# Altium footprint library 通讯接口.PcbLib: 40 footprints (part 1 of 3)
Each footprint in its own frame and in the unit in brackets; x right, y up, seen from the top. Pads: shape width x height; smd on the part's side, far side on the other; paste and mask are expansions set on the pad; w line width, h text height; cw(c..) or ccw(c..) is an arc to the next point about the centre after c.
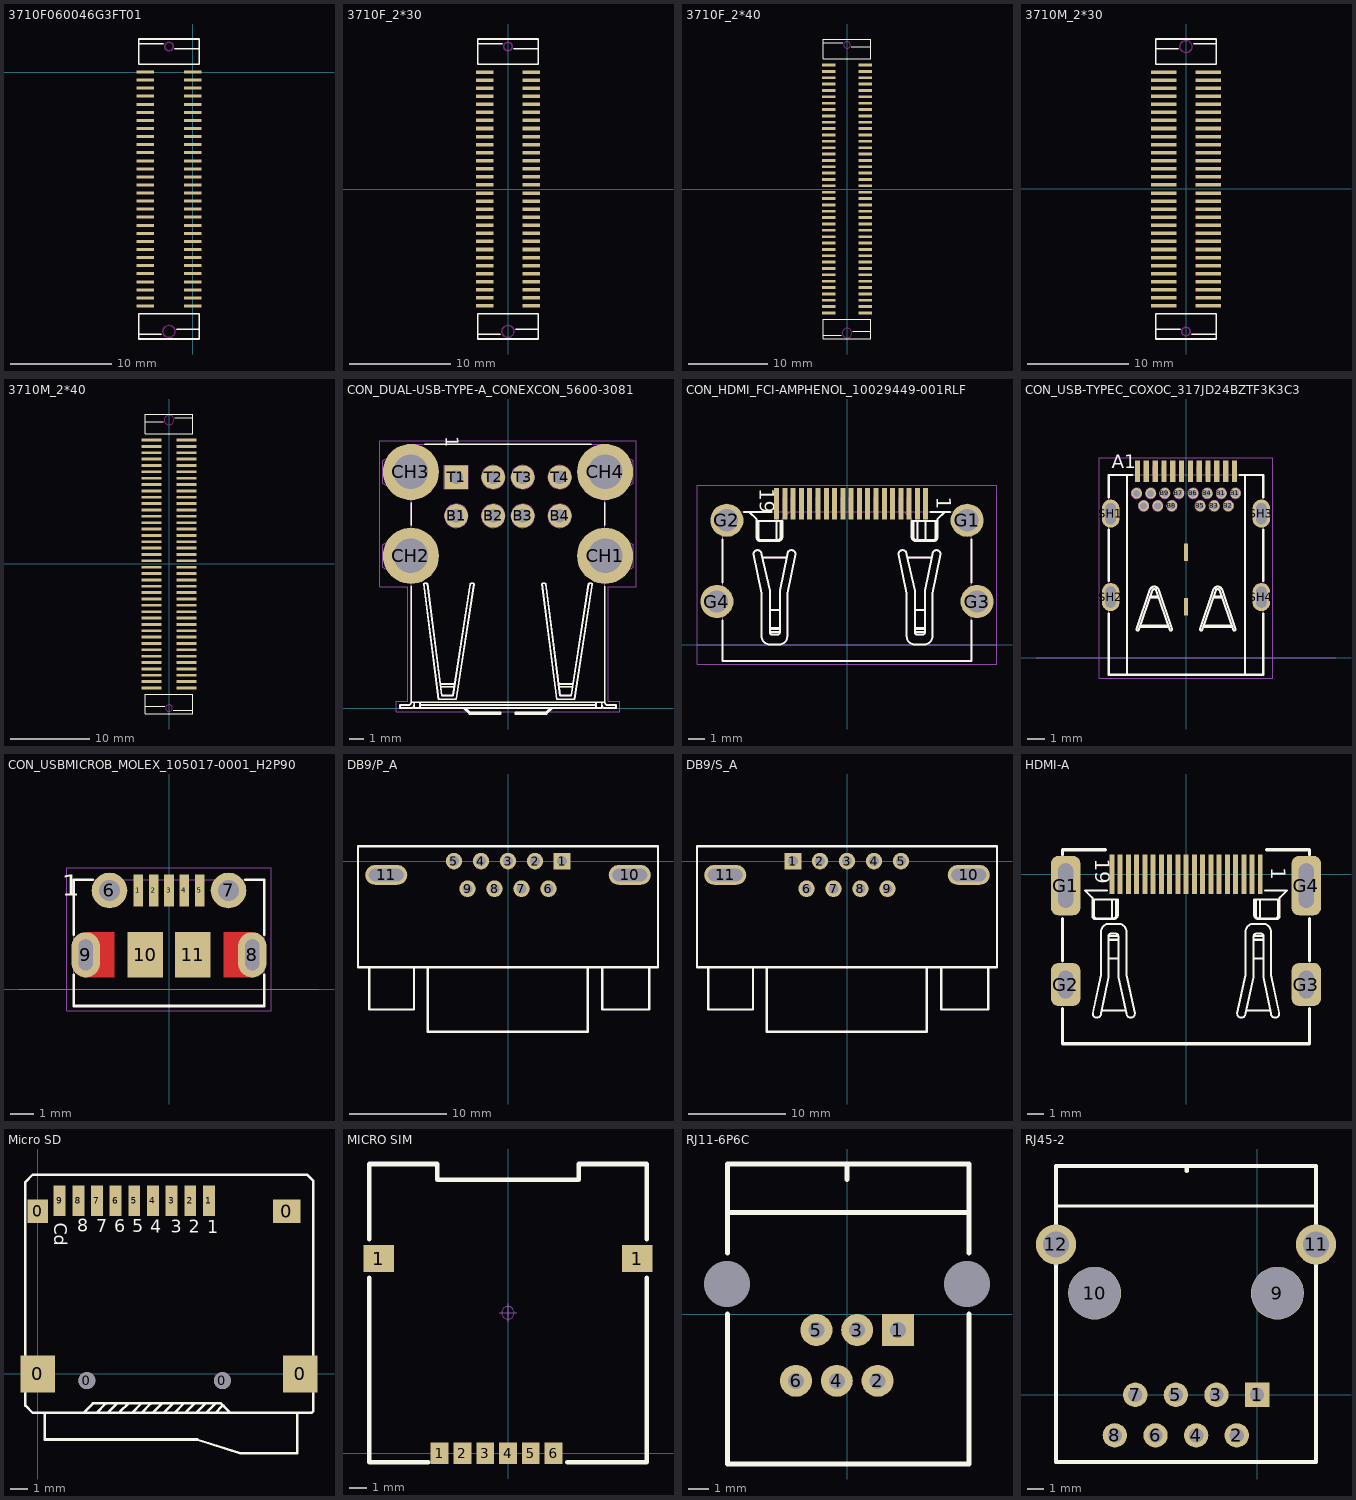
[diagram p0: the footprints below, top view; thin cyan lines are the x and y axes]

## 3710F060046G3FT01 [mm] "PIN:0.8mm;SOP;FEMALE"
height 4.6
pads (60):
  rect 1.7x0.3 smd: 1(-4.7,0) 2(-4.7,-0.8) 3(-4.7,-1.6) 4(-4.7,-2.4) 5(-4.7,-3.2) 6(-4.7,-4) 7(-4.7,-4.8) 8(-4.7,-5.6) 9(-4.7,-6.4) 10(-4.7,-7.2) 11(-4.7,-8) 12(-4.7,-8.8) 13(-4.7,-9.6) 14(-4.7,-10.4) 15(-4.7,-11.2) 16(-4.7,-12) 17(-4.7,-12.8) 18(-4.7,-13.6) 19(-4.7,-14.4) 20(-4.7,-15.2) 21(-4.7,-16) 22(-4.7,-16.8) 23(-4.7,-17.6) 24(-4.7,-18.4) 25(-4.7,-19.2) 26(-4.7,-20) 27(-4.7,-20.8) 28(-4.7,-21.6) 29(-4.7,-22.4) 30(-4.7,-23.2) 31(0,-23.2) 32(0,-22.4) 33(0,-21.6) 34(0,-20.8) 35(0,-20) 36(0,-19.2) 37(0,-18.4) 38(0,-17.6) 39(0,-16.8) 40(0,-16) 41(0,-15.2) 42(0,-14.4) 43(0,-13.6) 44(0,-12.8) 45(0,-12) 46(0,-11.2) 47(0,-10.4) 48(0,-9.6) 49(0,-8.8) 50(0,-8) 51(0,-7.2) 52(0,-6.4) 53(0,-5.6) 54(0,-4.8) 55(0,-4) 56(0,-3.2) 57(0,-2.4) 58(0,-1.6) 59(0,-0.8) 60(0,0)
Top Overlay:
  lines w0.152: -5.35,-26 -3.1,-26 ; -5.35,2.8 -2.9,2.8 ; -1.8,2.3 0.65,2.3 ; -1.6,-25.5 0.65,-25.5 ; 0.625,0.775 -5.35,0.775 -5.35,3.275 0.65,3.275 0.65,0.775 ; -5.35,-26.475 -5.35,-23.975 0.65,-23.975 0.65,-26.475 -5.35,-26.475
Keep-Out Layer:
  circle w0.127: c-2.35,2.525 r0.42
  circle w0.127: c-2.35,-25.725 r0.6

## 3710F_2*30 [mm] "PIN:0.8mm;SOP;FEMALE"
height 4.6
pads (60):
  rect 1.7x0.35 smd: 1(-2.3,11.6) 2(-2.3,10.8) 3(-2.3,10) 4(-2.3,9.2) 5(-2.3,8.4) 6(-2.3,7.6) 7(-2.3,6.8) 8(-2.3,6) 9(-2.3,5.2) 10(-2.3,4.4) 11(-2.3,3.6) 12(-2.3,2.8) 13(-2.3,2) 14(-2.3,1.2) 15(-2.3,0.4) 16(-2.3,-0.4) 17(-2.3,-1.2) 18(-2.3,-2) 19(-2.3,-2.8) 20(-2.3,-3.6) 21(-2.3,-4.4) 22(-2.3,-5.2) 23(-2.3,-6) 24(-2.3,-6.8) 25(-2.3,-7.6) 26(-2.3,-8.4) 27(-2.3,-9.2) 28(-2.3,-10) 29(-2.3,-10.8) 30(-2.3,-11.6) 31(2.3,-11.6) 32(2.3,-10.8) 33(2.3,-10) 34(2.3,-9.2) 35(2.3,-8.4) 36(2.3,-7.6) 37(2.3,-6.8) 38(2.3,-6) 39(2.3,-5.2) 40(2.3,-4.4) 41(2.3,-3.6) 42(2.3,-2.8) 43(2.3,-2) 44(2.3,-1.2) 45(2.3,-0.4) 46(2.3,0.4) 47(2.3,1.2) 48(2.3,2) 49(2.3,2.8) 50(2.3,3.6) 51(2.3,4.4) 52(2.3,5.2) 53(2.3,6) 54(2.3,6.8) 55(2.3,7.6) 56(2.3,8.4) 57(2.3,9.2) 58(2.3,10) 59(2.3,10.8) 60(2.3,11.6)
Top Overlay:
  lines w0.152: -3,-14.4 -0.75,-14.4 ; -3,14.4 -0.55,14.4 ; 0.55,13.9 3,13.9 ; 0.75,-13.9 3,-13.9 ; 2.975,12.375 -3,12.375 -3,14.875 3,14.875 3,12.375 ; -3,-14.875 -3,-12.375 3,-12.375 3,-14.875 -3,-14.875
Keep-Out Layer:
  circle w0.127: c0,14.125 r0.42
  circle w0.127: c0,-14.125 r0.6

## 3710F_2*40 [mm] "PIN:0.8mm;SOP;FEMALE"
height 4.6
pads (80):
  rect 1.7x0.35 smd: 1(-2.3,15.6) 2(-2.3,14.8) 3(-2.3,14) 4(-2.3,13.2) 5(-2.3,12.4) 6(-2.3,11.6) 7(-2.3,10.8) 8(-2.3,10) 9(-2.3,9.2) 10(-2.3,8.4) 11(-2.3,7.6) 12(-2.3,6.8) 13(-2.3,6) 14(-2.3,5.2) 15(-2.3,4.4) 16(-2.3,3.6) 17(-2.3,2.8) 18(-2.3,2) 19(-2.3,1.2) 20(-2.3,0.4) 21(-2.3,-0.4) 22(-2.3,-1.2) 23(-2.3,-2) 24(-2.3,-2.8) 25(-2.3,-3.6) 26(-2.3,-4.4) 27(-2.3,-5.2) 28(-2.3,-6) 29(-2.3,-6.8) 30(-2.3,-7.6) 31(-2.3,-8.4) 32(-2.3,-9.2) 33(-2.3,-10) 34(-2.3,-10.8) 35(-2.3,-11.6) 36(-2.3,-12.4) 37(-2.3,-13.2) 38(-2.3,-14) 39(-2.3,-14.8) 40(-2.3,-15.6) 41(2.3,-15.6) 42(2.3,-14.8) 43(2.3,-14) 44(2.3,-13.2) 45(2.3,-12.4) 46(2.3,-11.6) 47(2.3,-10.8) 48(2.3,-10) 49(2.3,-9.2) 50(2.3,-8.4) 51(2.3,-7.6) 52(2.3,-6.8) 53(2.3,-6) 54(2.3,-5.2) 55(2.3,-4.4) 56(2.3,-3.6) 57(2.3,-2.8) 58(2.3,-2) 59(2.3,-1.2) 60(2.3,-0.4) 61(2.3,0.4) 62(2.3,1.2) 63(2.3,2) 64(2.3,2.8) 65(2.3,3.6) 66(2.3,4.4) 67(2.3,5.2) 68(2.3,6) 69(2.3,6.8) 70(2.3,7.6) 71(2.3,8.4) 72(2.3,9.2) 73(2.3,10) 74(2.3,10.8) 75(2.3,11.6) 76(2.3,12.4) 77(2.3,13.2) 78(2.3,14) 79(2.3,14.8) 80(2.3,15.6)
Top Overlay:
  lines w0.152: -3,-18.4 -0.75,-18.4 ; -3,18.4 -0.55,18.4 ; 0.55,17.9 3,17.9 ; 0.75,-17.9 3,-17.9 ; 2.975,16.375 -3,16.375 -3,18.875 3,18.875 3,16.375 ; -3,-18.875 3,-18.875 3,-16.375 -3,-16.375 -3,-18.875
Keep-Out Layer:
  circle w0.127: c0,-18.125 r0.6
  circle w0.127: c0,18.125 r0.42

## 3710M_2*30 [mm] "PIN:0.8mm;SOP;MALE"
height 4.6
pads (60):
  rect 2.5x0.35 smd: 1(2.2,11.6) 2(2.2,10.8) 3(2.2,10) 4(2.2,9.2) 5(2.2,8.4) 6(2.2,7.6) 7(2.2,6.8) 8(2.2,6) 9(2.2,5.2) 10(2.2,4.4) 11(2.2,3.6) 12(2.2,2.8) 13(2.2,2) 14(2.2,1.2) 15(2.2,0.4) 16(2.2,-0.4) 17(2.2,-1.2) 18(2.2,-2) 19(2.2,-2.8) 20(2.2,-3.6) 21(2.2,-4.4) 22(2.2,-5.2) 23(2.2,-6) 24(2.2,-6.8) 25(2.2,-7.6) 26(2.2,-8.4) 27(2.2,-9.2) 28(2.2,-10) 29(2.2,-10.8) 30(2.2,-11.6) 31(-2.2,-11.6) 32(-2.2,-10.8) 33(-2.2,-10) 34(-2.2,-9.2) 35(-2.2,-8.4) 36(-2.2,-7.6) 37(-2.2,-6.8) 38(-2.2,-6) 39(-2.2,-5.2) 40(-2.2,-4.4) 41(-2.2,-3.6) 42(-2.2,-2.8) 43(-2.2,-2) 44(-2.2,-1.2) 45(-2.2,-0.4) 46(-2.2,0.4) 47(-2.2,1.2) 48(-2.2,2) 49(-2.2,2.8) 50(-2.2,3.6) 51(-2.2,4.4) 52(-2.2,5.2) 53(-2.2,6) 54(-2.2,6.8) 55(-2.2,7.6) 56(-2.2,8.4) 57(-2.2,9.2) 58(-2.2,10) 59(-2.2,10.8) 60(-2.2,11.6)
Top Overlay:
  lines w0.152: -3,-13.9 -0.55,-13.9 ; -3,-12.375 -3,-14.875 3,-14.875 3,-12.375 -2.975,-12.375 ; -3,13.9 -0.75,13.9 ; 0.55,-14.4 3,-14.4 ; 0.75,14.4 3,14.4 ; -3,12.375 3,12.375 3,14.875 -3,14.875 -3,12.375
Keep-Out Layer:
  circle w0.127: c0,14.125 r0.6
  circle w0.127: c0,-14.125 r0.42

## 3710M_2*40 [mm] "PIN:0.8mm;SOP;MALE"
height 4.6
pads (80):
  rect 2.5x0.35 smd: 1(2.2,15.6) 2(2.2,14.8) 3(2.2,14) 4(2.2,13.2) 5(2.2,12.4) 6(2.2,11.6) 7(2.2,10.8) 8(2.2,10) 9(2.2,9.2) 10(2.2,8.4) 11(2.2,7.6) 12(2.2,6.8) 13(2.2,6) 14(2.2,5.2) 15(2.2,4.4) 16(2.2,3.6) 17(2.2,2.8) 18(2.2,2) 19(2.2,1.2) 20(2.2,0.4) 21(2.2,-0.4) 22(2.2,-1.2) 23(2.2,-2) 24(2.2,-2.8) 25(2.2,-3.6) 26(2.2,-4.4) 27(2.2,-5.2) 28(2.2,-6) 29(2.2,-6.8) 30(2.2,-7.6) 31(2.2,-8.4) 32(2.2,-9.2) 33(2.2,-10) 34(2.2,-10.8) 35(2.2,-11.6) 36(2.2,-12.4) 37(2.2,-13.2) 38(2.2,-14) 39(2.2,-14.8) 40(2.2,-15.6) 41(-2.2,-15.6) 42(-2.2,-14.8) 43(-2.2,-14) 44(-2.2,-13.2) 45(-2.2,-12.4) 46(-2.2,-11.6) 47(-2.2,-10.8) 48(-2.2,-10) 49(-2.2,-9.2) 50(-2.2,-8.4) 51(-2.2,-7.6) 52(-2.2,-6.8) 53(-2.2,-6) 54(-2.2,-5.2) 55(-2.2,-4.4) 56(-2.2,-3.6) 57(-2.2,-2.8) 58(-2.2,-2) 59(-2.2,-1.2) 60(-2.2,-0.4) 61(-2.2,0.4) 62(-2.2,1.2) 63(-2.2,2) 64(-2.2,2.8) 65(-2.2,3.6) 66(-2.2,4.4) 67(-2.2,5.2) 68(-2.2,6) 69(-2.2,6.8) 70(-2.2,7.6) 71(-2.2,8.4) 72(-2.2,9.2) 73(-2.2,10) 74(-2.2,10.8) 75(-2.2,11.6) 76(-2.2,12.4) 77(-2.2,13.2) 78(-2.2,14) 79(-2.2,14.8) 80(-2.2,15.6)
Top Overlay:
  lines w0.152: -3,-17.9 -0.55,-17.9 ; -3,-16.375 -3,-18.875 3,-18.875 3,-16.375 -2.975,-16.375 ; -3,17.9 -0.75,17.9 ; 0.55,-18.4 3,-18.4 ; 0.75,18.4 3,18.4 ; -3,16.375 -3,18.875 3,18.875 3,16.375 -3,16.375
Keep-Out Layer:
  circle w0.127: c0,-18.125 r0.42
  circle w0.127: c0,18.125 r0.6

## CON_DUAL-USB-TYPE-A_CONEXCON_5600-3081 [mm]
height 15.82
pads (12):
  round 1.6 hole 0.92: B1(-3.5,13.01) B2(-1,13.01) B3(1,13.01) B4(3.5,13.01) T2(-1,15.63) T3(1,15.63) T4(3.5,15.63)
  round 3.8 hole 2.33: CH1(6.57,10.3) CH2(-6.57,10.3) CH3(-6.57,15.98) CH4(6.57,15.98)
  rect 1.6x1.6 hole 0.92: T1(-3.5,15.63)
Top Overlay:
  lines w0.12: -6.55,8.225 -6.55,0.4 ; -6.55,12.375 -6.55,13.9 ; -6.35,0.2 cw(c-6.55,0.2) -6.55,0 ; -5.95,0 -5.95,0.4 ; -5.95,0.2 5.95,0.2 ; -5.625,17.85 5.625,17.85 ; -4.575,1.624 -3.6,1.625 ; -4.552,1.45 -3.632,1.45 ; -3,0 -2.6,-0.4 -0.5,-0.4 -0.5,-0.3 -2.55,-0.3 -2.85,0 ; 2.85,0 2.55,-0.3 0.5,-0.3 0.5,-0.4 2.6,-0.4 3,0 ; 3.425,1.624 4.4,1.625 ; 3.448,1.45 4.368,1.45 ; 5.95,0 5.95,0.2 ; 5.95,0.4 5.95,0.2 ; 6.35,0.2 ccw(c6.55,0.2) 6.55,0 ; 6.35,0.4 6.35,0 -6.35,0 ; 6.55,8.225 6.55,0.4 ; 6.55,12.375 6.55,13.9 ; -6.75,0.2 ccw(c-6.75,0.4) -6.55,0.4 ; -6.75,0.2 -7.3,0.2 -7.3,0 -6.55,0 ; -6.75,0.2 -6.75,0.2 ; -6.55,0 -6.55,0 ; -6.55,0.4 6.55,0.4 ; -6.55,0.4 -6.35,0.4 -6.35,0 ; -6.35,0 -6.35,0 ; 6.55,0 6.55,0 ; 6.55,0 7.3,0 7.3,0.2 6.75,0.2 ; 6.55,0.4 ccw(c6.75,0.4) 6.75,0.2 ; 6.75,0.2 6.75,0.2 ; -5.7,8.4 cw(c-5.575,8.275) -5.45,8.4 -4.475,0.85 -3.725,0.85 -2.55,8.4 cw(c-2.425,8.275) -2.3,8.4 -3.5,0.6 -4.7,0.6 -5.7,8.4 ; 2.3,8.4 cw(c2.425,8.275) 2.55,8.4 3.525,0.85 4.275,0.85 5.45,8.4 cw(c5.575,8.275) 5.7,8.4 4.5,0.6 3.3,0.6 2.3,8.4
  text "1" at -4.525,18.4 h1.5
Mechanical 14:
  circle w0.01: c-1,15.63 r0.8
  circle w0.01: c1,15.63 r0.8
  circle w0.01: c3.5,15.63 r0.8
  circle w0.01: c-3.5,13.01 r0.8
  circle w0.01: c-1,13.01 r0.8
  circle w0.01: c1,13.01 r0.8
  circle w0.01: c3.5,13.01 r0.8
  lines w0.01: -6.55,8.4 -8.475,9.525 -8.475,11.05 -6.55,12.175 ; -6.55,14.075 -8.475,15.2 -8.475,16.725 -6.55,17.85 ; -6.35,0.2 cw(c-6.55,0.2) -6.55,0 ; -5.95,0 -5.95,0.4 ; -5.95,0.2 5.95,0.2 ; -4.575,1.624 -3.6,1.625 ; -4.552,1.45 -3.632,1.45 ; -3,0 -2.6,-0.4 -0.5,-0.4 -0.5,-0.3 -2.55,-0.3 -2.85,0 ; 2.85,0 2.55,-0.3 0.5,-0.3 0.5,-0.4 2.6,-0.4 3,0 ; 3.425,1.624 4.4,1.625 ; 3.448,1.45 4.368,1.45 ; 5.95,0 5.95,0.2 ; 5.95,0.4 5.95,0.2 ; 6.35,0.2 ccw(c6.55,0.2) 6.55,0 ; 6.35,0.4 6.35,0 -6.35,0 ; 6.55,8.4 8.475,9.525 8.475,11.05 6.55,12.175 ; 6.55,14.075 8.475,15.2 8.475,16.725 6.55,17.85 ; -6.75,0.2 ccw(c-6.75,0.4) -6.55,0.4 ; -6.75,0.2 -6.75,0.2 ; -6.75,0.2 -7.3,0.2 -7.3,0 -6.55,0 ; -6.55,0 -6.55,0 ; -6.55,0.4 -6.35,0.4 -6.35,0 ; -6.55,0.4 6.55,0.4 ; -6.55,0.4 -6.55,17.85 ; -6.55,17.85 6.55,17.85 ; -6.35,0 -6.35,0 ; 6.55,0 7.3,0 7.3,0.2 6.75,0.2 ; 6.55,0 6.55,0 ; 6.55,0.4 ccw(c6.75,0.4) 6.75,0.2 ; 6.55,0.4 6.55,17.85 ; 6.75,0.2 6.75,0.2 ; -5.7,8.4 cw(c-5.575,8.275) -5.45,8.4 -4.475,0.85 -3.725,0.85 -2.55,8.4 cw(c-2.425,8.275) -2.3,8.4 -3.5,0.6 -4.7,0.6 -5.7,8.4 ; -4.3,14.825 -2.7,14.825 -2.7,16.425 -4.3,16.425 -4.3,14.825 ; 2.3,8.4 cw(c2.425,8.275) 2.55,8.4 3.525,0.85 4.275,0.85 5.45,8.4 cw(c5.575,8.275) 5.7,8.4 4.5,0.6 3.3,0.6 2.3,8.4
  text "8" at 3.175,12.5 h1.5
  text "7" at 0.675,12.525 h1.5
  text "6" at -1.325,12.525 h1.5
  text "5" at -3.85,12.525 h1.5
  text "4" at 3.1,15.15 h1.5
  text "3" at 0.675,15.125 h1.5
  text "2" at -1.35,15.175 h1.5
  text "1" at -3.7,15.125 h1.5
Mechanical 16:
  lines w0.01: -8.675,8.2 -8.675,12.4 -8.675,18.1 8.675,18.1 8.675,8.2 6.8,8.2 6.8,0.45 7.55,0.45 7.55,-0.25 -5.875,-0.25 -7.55,-0.25 -7.55,0.45 -6.8,0.45 -6.775,0.475 -6.775,8.2 -8.675,8.2
3D body: height 15.82, standoff 0, extent -6.549,0.401 6.549,17.849
3D body: height 15.82, standoff 0, extent -5.949,0.001 5.949,0.199
3D body: height 15.82, standoff 0, extent -5.949,0.201 5.949,0.399
3D body: height 15.82, standoff 0, extent -5.949,0.001 5.949,0.199
3D body: height 15.82, standoff 0, extent -5.949,0.201 5.949,0.399
3D body: height 15.82, standoff 0, extent -6.349,0.001 -5.951,0.399
3D body: height 15.82, standoff 0, extent -5.949,0.001 5.949,0.199
3D body: height 15.82, standoff 0, extent -5.949,0.201 5.949,0.399
3D body: height 15.82, standoff 0, extent 5.951,0.001 6.349,0.399
3D body: height 15.82, standoff 0, extent -6.349,0.001 -5.951,0.399
3D body: height 15.82, standoff 0, extent -5.949,0.001 5.949,0.199
3D body: height 15.82, standoff 0, extent -5.949,0.201 5.949,0.399
3D body: height 15.82, standoff 0, extent 5.951,0.001 6.349,0.399
3D body "DUAL-USB-TYPE-A.stp": height 16.2, standoff -3.2, extent -7.825,-0.597 7.875,17

## CON_HDMI_FCI-AMPHENOL_10029449-001RLF [mm]
height 6.3
pads (23):
  rect 0.3x1.9 smd mask+0.05: 1(4.75,8.5) 2(4.25,8.5) 3(3.75,8.5) 4(3.25,8.5) 5(2.75,8.5) 6(2.25,8.5) 7(1.75,8.5) 8(1.25,8.5) 9(0.75,8.5) 10(0.25,8.5) 11(-0.25,8.5) 12(-0.75,8.5) 13(-1.25,8.5) 14(-1.75,8.5) 15(-2.25,8.5) 16(-2.75,8.5) 17(-3.25,8.5) 18(-3.75,8.5) 19(-4.25,8.5)
  round 2 hole 1.35 mask+0.1: G1(7.25,7.5) G2(-7.25,7.5) G3(7.85,2.6) G4(-7.85,2.6)
Top Overlay:
  lines w0.12: -7.5,1.45 -7.5,-1 7.5,-1 7.5,1.45 ; -7.5,3.75 -7.5,6.35 ; -6.2,8 -4.55,8 ; -5.9,8 -5.45,7.55 -5.45,6.45 ccw(c-5.25,6.45) -5.25,6.25 -4.15,6.25 ccw(c-4.15,6.5) -3.9,6.5 -3.9,7.45 -5.45,7.45 ; -5.35,7.45 -5.35,6.5 -5.35,6.45 ccw(c-5.2,6.45) -5.2,6.3 -4.2,6.3 ccw(c-4.2,6.5) -4,6.5 -4,7.45 ; -5.1,5.25 -3.65,5.25 ; -4.65,0.95 -4.05,0.95 ; -4.65,1 -4.05,1 ; -4.65,2.1 -4.05,2.1 ; -4.25,6.3 -4.25,7.45 ; 3.65,5.25 5.1,5.25 ; 4,7.45 4,6.5 ccw(c4.2,6.5) 4.2,6.3 5.2,6.3 ccw(c5.2,6.45) 5.35,6.45 5.35,6.5 5.35,7.45 ; 4.1,0.95 4.7,0.95 ; 4.1,1 4.7,1 ; 4.1,2.1 4.7,2.1 ; 4.25,6.3 4.25,7.45 ; 4.75,6.3 4.75,7.45 ; 5.05,8 6.2,8 ; 5.45,7.45 3.9,7.45 3.9,6.5 ccw(c4.15,6.5) 4.15,6.25 5.25,6.25 ccw(c5.25,6.45) 5.45,6.45 5.45,7.55 5.9,8 ; 7.5,3.75 7.5,6.35 ; -5.4,5.7 cw(c-5.4,5.45) -5.15,5.45 -4.65,3.25 -4.65,0.85 -4.65,0.75 ; -5.4,5.7 ccw(c-5.4,5.45) -5.65,5.45 -5.15,3.1 -5.15,0.5 ccw(c-4.65,0.5) -4.65,0 -4.6,0 -4.1,0 ccw(c-4.1,0.5) -3.6,0.5 -3.6,3.1 -3.1,5.45 ccw(c-3.35,5.45) -3.35,5.7 ccw(c-3.35,5.45) -3.6,5.45 -4.05,3.25 -4.05,0.75 ; -5.4,5.7 -5.4,5.7 ; -4.65,0.75 ccw(c-4.5,0.75) -4.5,0.6 -4.2,0.6 ccw(c-4.2,0.75) -4.05,0.75 ; -4.65,0.75 -4.05,0.75 ; 3.35,5.7 ccw(c3.35,5.45) 3.1,5.45 3.6,3.1 3.6,0.5 ccw(c4.1,0.5) 4.1,0 4.15,0 4.65,0 ccw(c4.65,0.5) 5.15,0.5 5.15,3.1 5.65,5.45 ccw(c5.4,5.45) 5.4,5.7 ccw(c5.4,5.45) 5.15,5.45 4.7,3.25 4.7,0.75 ; 3.35,5.7 cw(c3.35,5.45) 3.6,5.45 4.1,3.25 4.1,0.85 4.1,0.75 ; 3.35,5.7 3.35,5.7 ; 4.1,0.75 ccw(c4.25,0.75) 4.25,0.6 4.55,0.6 ccw(c4.55,0.75) 4.7,0.75 ; 4.1,0.75 4.7,0.75
  text "19" at -5.575,9.425 h1.5
  text "1" at 5.1,8.925 h1.5
Mechanical 7:
  lines w0.01: -9,0 9,0
  text "EDGE" at 7.775,-0.775 h1
  text "PCB" at -9.4,-0.8 h1
Mechanical 14:
  lines w0.01: -7.5,2.1 -8.2,2.1 -8.2,3.1 -7.5,3.1 ; -5.9,8 -5.45,7.55 -5.45,6.45 ccw(c-5.25,6.45) -5.25,6.25 -4.15,6.25 ccw(c-4.15,6.5) -3.9,6.5 -3.9,7.55 -3.45,8 ; -5.45,7.45 -3.9,7.45 ; -5.35,7.45 -5.35,6.5 -5.35,6.45 ccw(c-5.2,6.45) -5.2,6.3 -4.2,6.3 ccw(c-4.2,6.5) -4,6.5 -4,7.45 ; -5.1,5.25 -3.65,5.25 ; -4.65,0.95 -4.05,0.95 ; -4.65,1 -4.05,1 ; -4.65,2.1 -4.05,2.1 ; -4.35,8 -4.35,8.9 -4.15,8.9 -4.15,8 ; -4.25,6.3 -4.25,8 ; -3.85,8 -3.85,8.9 -3.65,8.9 -3.65,8 ; -3.35,8 -3.35,8.9 -3.15,8.9 -3.15,8 ; -2.85,8 -2.85,8.9 -2.65,8.9 -2.65,8 ; -2.35,8 -2.35,8.9 -2.15,8.9 -2.15,8 ; -1.85,8 -1.85,8.9 -1.65,8.9 -1.65,8 ; -1.35,8 -1.35,8.9 -1.15,8.9 -1.15,8 ; -0.85,8 -0.85,8.9 -0.65,8.9 -0.65,8 ; -0.35,8 -0.35,8.9 -0.15,8.9 -0.15,8 ; 0.15,8 0.15,8.9 0.35,8.9 0.35,8 ; 0.65,8 0.65,8.9 0.85,8.9 0.85,8 ; 1.15,8 1.15,8.9 1.35,8.9 1.35,8 ; 1.65,8 1.65,8.9 1.85,8.9 1.85,8 ; 2.15,8 2.15,8.9 2.35,8.9 2.35,8 ; 2.65,8 2.65,8.9 2.85,8.9 2.85,8 ; 3.15,8 3.15,8.9 3.35,8.9 3.35,8 ; 3.45,8 3.9,7.55 3.9,6.5 ccw(c4.15,6.5) 4.15,6.25 5.25,6.25 ccw(c5.25,6.45) 5.45,6.45 5.45,7.55 5.9,8 ; 3.65,5.25 5.1,5.25 ; 3.65,8 3.65,8.9 3.85,8.9 3.85,8 ; 3.9,7.45 5.45,7.45 ; 4,7.45 4,6.5 ccw(c4.2,6.5) 4.2,6.3 5.2,6.3 ccw(c5.2,6.45) 5.35,6.45 5.35,6.5 5.35,7.45 ; 4.1,0.95 4.7,0.95 ; 4.1,1 4.7,1 ; 4.1,2.1 4.7,2.1 ; 4.15,8 4.15,8.9 4.35,8.9 4.35,8 ; 4.25,6.3 4.25,8 ; 4.65,8 4.65,8.9 4.85,8.9 4.85,8 ; 4.75,6.3 4.75,8 ; 7.5,2.1 8.2,2.1 8.2,3.1 7.5,3.1 ; -5.4,5.7 ccw(c-5.4,5.45) -5.65,5.45 -5.15,3.1 -5.15,0.5 ccw(c-4.65,0.5) -4.65,0 -4.6,0 -4.1,0 ccw(c-4.1,0.5) -3.6,0.5 -3.6,3.1 -3.1,5.45 ccw(c-3.35,5.45) -3.35,5.7 ccw(c-3.35,5.45) -3.6,5.45 -4.05,3.25 -4.05,0.75 ; -5.4,5.7 cw(c-5.4,5.45) -5.15,5.45 -4.65,3.25 -4.65,0.85 -4.65,0.75 ; -5.4,5.7 -5.4,5.7 ; -4.65,0.75 ccw(c-4.5,0.75) -4.5,0.6 -4.2,0.6 ccw(c-4.2,0.75) -4.05,0.75 ; -4.65,0.75 -4.05,0.75 ; 3.35,5.7 cw(c3.35,5.45) 3.6,5.45 4.1,3.25 4.1,0.85 4.1,0.75 ; 3.35,5.7 ccw(c3.35,5.45) 3.1,5.45 3.6,3.1 3.6,0.5 ccw(c4.1,0.5) 4.1,0 4.15,0 4.65,0 ccw(c4.65,0.5) 5.15,0.5 5.15,3.1 5.65,5.45 ccw(c5.4,5.45) 5.4,5.7 ccw(c5.4,5.45) 5.15,5.45 4.7,3.25 4.7,0.75 ; 3.35,5.7 3.35,5.7 ; 4.1,0.75 ccw(c4.25,0.75) 4.25,0.6 4.55,0.6 ccw(c4.55,0.75) 4.7,0.75 ; 4.1,0.75 4.7,0.75 ; -7.5,-1 -7.5,8 7.5,8 7.5,-1 -7.5,-1
  text "1" at 5.075,8.175 h1.5
  text "19" at -5.85,8.225 h1.5
Mechanical 16:
  lines w0.01: -9.05,-1.2 9.05,-1.2 9.05,9.6 -4.25,9.6 -9.05,9.6 -9.05,-1.2
3D body: height 6.3, standoff 0, extent -7.5,-1 7.5,8
3D body "CON_FCI_10029449-001LF.STEP": height 6.08, standoff -1.92, extent -8.1,-1 8.1,8.9

## CON_USB-TYPEC_COXOC_317JD24BZTF3K3C3 [mm]
height 2.96
pads (32):
  rect 0.2x1 smd paste-10 mask+0: 0(0,2.9) 0(0,6)
  rect 0.3x1.2 smd mask+0.05: A1(-2.75,10.58) A2(-2.25,10.58) A3(-1.75,10.58) A4(-1.25,10.58) A5(-0.75,10.58) A6(-0.25,10.58) A7(0.25,10.58) A8(0.75,10.58) A9(1.25,10.58) A10(1.75,10.58) A11(2.25,10.58) A12(2.75,10.58)
  round 0.6 hole 0.4 mask+0.05: B1(2,9.33) B1(2.8,9.33) B2(2.4,8.62) B3(1.6,8.62) B4(1.2,9.33) B5(0.8,8.62) B6(0.4,9.33) B7(-0.4,9.33) B8(-0.8,8.62) B9(-1.2,9.33) B10(-1.6,8.62) B11(-2.4,8.62) B12(-2.8,9.33) B12(-2,9.33)
  oval 1x1.6 hole 0.6 slot 1.2 at 90 deg mask+0.05: SH1(-4.27,8.18) SH2(-4.27,3.45) SH3(4.27,8.18) SH4(4.27,3.45)
Top Overlay:
  lines w0.12: -4.375,2.525 -4.375,-0.95 4.375,-0.95 4.375,2.525 ; -4.375,4.375 -4.375,7.275 ; -4.375,9.1 -4.375,10.375 -3.025,10.375 ; -3.35,-0.95 -3.35,10.375 ; -2.625,1.75 -0.975,1.75 ; -2.6,1.825 -1,1.825 ; -2.05,3.425 -1.55,3.425 ; -2.025,3.475 -1.575,3.475 ; 0.975,1.75 2.625,1.75 ; 1,1.825 2.6,1.825 ; 1.55,3.425 2.05,3.425 ; 1.575,3.475 2.025,3.475 ; 3.025,10.375 4.375,10.375 4.375,9.1 ; 3.35,-0.95 3.35,10.375 ; 4.375,4.375 4.375,7.275 ; -1.715,3.865 ccw(c-1.8,3.779) -1.8,3.9 ccw(c-1.8,3.779) -1.885,3.865 -1.9,3.85 -2.7,1.55 cw(c-2.725,1.625) -2.8,1.65 -2.05,3.9 -1.971,3.979 cw(c-1.8,3.809) -1.8,4.05 cw(c-1.8,3.809) -1.629,3.979 -1.55,3.9 -0.8,1.65 cw(c-0.875,1.625) -0.9,1.55 -1.7,3.85 ; -1.715,3.865 -1.7,3.85 ; -1.715,3.865 -1.7,3.85 ; 1.7,3.85 1.715,3.865 ; 1.7,3.85 0.9,1.55 cw(c0.875,1.625) 0.8,1.65 1.55,3.9 1.629,3.979 cw(c1.8,3.809) 1.8,4.05 cw(c1.8,3.809) 1.971,3.979 2.05,3.9 2.8,1.65 cw(c2.725,1.625) 2.7,1.55 1.9,3.85 1.885,3.865 ccw(c1.8,3.779) 1.8,3.9 ccw(c1.8,3.779) 1.715,3.865 ; 1.7,3.85 1.715,3.865
  text "A1" at -4.2,10.5 h1.3
Mechanical 7:
  lines w0.01: -8.5,0 8.5,0
  text "EDGE" at 6.075,-0.7 h1
  text "PCB" at -8.5,-0.7 h1
Mechanical 14:
  circle w0.01: c2.8,9.33 r0.3
  circle w0.01: c2.4,8.62 r0.3
  circle w0.01: c2,9.33 r0.3
  circle w0.01: c1.6,8.62 r0.3
  circle w0.01: c1.2,9.33 r0.3
  circle w0.01: c0.8,8.62 r0.3
  circle w0.01: c0.4,9.33 r0.3
  circle w0.01: c-0.4,9.33 r0.3
  circle w0.01: c-0.8,8.62 r0.3
  circle w0.01: c-1.2,9.33 r0.3
  circle w0.01: c-1.6,8.62 r0.3
  circle w0.01: c-2,9.33 r0.3
  circle w0.01: c-2.4,8.62 r0.3
  circle w0.01: c-2.8,9.33 r0.3
  lines w0.01: -3.35,-0.95 -3.35,10.38 ; -2.85,10.38 -2.85,10.88 -2.65,10.88 -2.65,10.38 ; -2.625,1.75 -0.975,1.75 ; -2.6,1.825 -1,1.825 ; -2.35,10.38 -2.35,10.88 -2.15,10.88 -2.15,10.38 ; -2.05,3.425 -1.55,3.425 ; -2.025,3.475 -1.575,3.475 ; -1.85,10.38 -1.85,10.88 -1.65,10.88 -1.65,10.38 ; -1.35,10.38 -1.35,10.88 -1.15,10.88 -1.15,10.38 ; -0.85,10.38 -0.85,10.88 -0.65,10.88 -0.65,10.38 ; -0.35,10.38 -0.35,10.88 -0.15,10.88 -0.15,10.38 ; 0.15,10.38 0.15,10.88 0.35,10.88 0.35,10.38 ; 0.65,10.38 0.65,10.88 0.85,10.88 0.85,10.38 ; 0.975,1.75 2.625,1.75 ; 1,1.825 2.6,1.825 ; 1.15,10.38 1.15,10.88 1.35,10.88 1.35,10.38 ; 1.55,3.425 2.05,3.425 ; 1.575,3.475 2.025,3.475 ; 1.65,10.38 1.65,10.88 1.85,10.88 1.85,10.38 ; 2.15,10.38 2.15,10.88 2.35,10.88 2.35,10.38 ; 2.65,10.38 2.65,10.88 2.85,10.88 2.85,10.38 ; 3.35,-0.95 3.35,10.38 ; -1.715,3.865 ccw(c-1.8,3.779) -1.8,3.9 ccw(c-1.8,3.779) -1.885,3.865 -1.9,3.85 -2.7,1.55 cw(c-2.725,1.625) -2.8,1.65 -2.05,3.9 -1.971,3.979 cw(c-1.8,3.809) -1.8,4.05 cw(c-1.8,3.809) -1.629,3.979 -1.55,3.9 -0.8,1.65 cw(c-0.875,1.625) -0.9,1.55 -1.7,3.85 ; -1.715,3.865 -1.7,3.85 ; -1.715,3.865 -1.7,3.85 ; 1.7,3.85 1.715,3.865 ; 1.7,3.85 0.9,1.55 cw(c0.875,1.625) 0.8,1.65 1.55,3.9 1.629,3.979 cw(c1.8,3.809) 1.8,4.05 cw(c1.8,3.809) 1.971,3.979 2.05,3.9 2.8,1.65 cw(c2.725,1.625) 2.7,1.55 1.9,3.85 1.885,3.865 ccw(c1.8,3.779) 1.8,3.9 ccw(c1.8,3.779) 1.715,3.865 ; 1.7,3.85 1.715,3.865 ; -4.37,-0.95 -4.37,10.38 4.37,10.38 4.37,-0.95 -4.37,-0.95
  text "A12" at 2.375,10.45 h0.5
  text "A1" at -3,10.45 h0.5
  text "B6" at 0.1,9.205 h0.4
  text "B5" at 0.5,8.48 h0.4
  text "B3" at 1.3,8.48 h0.4
  text "B1" at 2.5,9.205 h0.4
  text "GND" at -2.375,9.205 h0.4
  text "B12" at -3.1,9.205 h0.4
  text "GND" at 1.65,9.205 h0.4
  text "B2" at 2.1,8.48 h0.4
  text "B4" at 0.925,9.205 h0.4
  text "B11" at -2.7,8.48 h0.4
  text "B10" at -1.9,8.48 h0.4
  text "B8" at -1.1,8.48 h0.4
  text "B9" at -1.5,9.205 h0.4
  text "B7" at -0.7,9.205 h0.4
Mechanical 16:
  lines w0.01: -4.925,-1.15 4.925,-1.15 4.925,11.35 -4.925,11.35 -4.925,3.7 -4.925,-1.15
3D body: height 2.96, standoff 0, extent -4.375,-0.95 4.375,10.375
3D body "CON_USB-TYPEC_COXOC_317JD24BZTF3K3C3.stp": height 3.03, standoff -1.83, extent -4.37,-0.95 4.37,10.844

## CON_USBMICROB_MOLEX_105017-0001_H2P90 [mm]
height 2.9
pads (11):
  rect 0.4x1.35 smd mask+0.05: 1(-1.3,4.15) 2(-0.65,4.15) 3(0,4.15) 4(0.65,4.15) 5(1.3,4.15)
  round 1.5 hole 0.9 mask+0.05: 6(-2.5,4.15) 7(2.5,4.15)
  oval 1.2x1.9 hole 0.6 slot 1.3 at 90 deg mask+0.05: 8(3.5,1.45) 9(-3.5,1.45)
  rect 1.5x1.9 smd mask+0.05: 10(-1,1.45) 11(1,1.45)
Top Layer:
  region: 2.3,2.4 3.5,2.4 3.5,0.5 2.3,0.5
  region: -3.5,2.4 -2.3,2.4 -2.3,0.5 -3.5,0.5
Top Overlay:
  lines w0.12: -4,0.6 -4,-0.7 4,-0.7 4,0.6 ; -4,2.3 -4,4.6 -3.2,4.6 ; 3.2,4.6 4,4.6 4,2.3
  text "1" at -4.5,3.625 h1.5
Top Solder:
  region: -3.5,2.45 -2.25,2.45 -2.25,0.45 -3.5,0.45
  region: 2.25,2.45 3.5,2.45 3.5,0.45 2.25,0.45
Mechanical 7:
  lines w0.01: -6.3,0 6.3,0
  text "PCB" at -6.25,-0.725 h1
  text "EDGE" at 4.35,-0.7 h1
Mechanical 14:
  lines w0.01: -4,-0.7 -4,4.6 4,4.6 4,-0.7 -4,-0.7
  text "5" at 1,3.55 h1.5
  text "1" at -1.55,3.55 h1.5
Mechanical 16:
  lines w0.01: -4.3,-0.9 -4.3,5.1 4.3,5.1 4.3,-0.9 -4.3,-0.9
3D body: height 2.9, standoff 0, extent -3.999,0.001 3.999,4.599
3D body: height 2.9, standoff 0, extent -4.06,-0.76 4.06,4.66
3D body "MOLEX_105017-0001.stp": height 2.63, standoff -0.67, extent -4.1,-1.15 4.1,4.25

## DB9/P_A [mm] "9针公头串口,31*18.5*12.5mm"
pads (11):
  rect 1.7x1.7 hole 1: 1(5.546,0)
  round 1.7 hole 1: 2(2.773,0) 3(0,0) 4(-2.773,0) 5(-5.546,0) 6(4.155,-2.84) 7(1.385,-2.84) 8(-1.385,-2.84) 9(-4.155,-2.84)
  oval 4.318x2.032 hole 1.27 slot 3.556 at 0 deg: 10(12.5,-1.42) 11(-12.5,-1.42)
Top Overlay:
  lines w0.254: -14.224,-10.922 -14.224,-15.24 -9.652,-15.24 -9.652,-10.922 ; -8.225,-10.922 -8.225,-17.526 8.175,-17.526 8.175,-10.922 ; 9.652,-10.922 9.652,-15.24 14.478,-15.24 14.478,-10.922 ; -15.4,-10.922 15.4,-10.922 15.4,1.524 -15.4,1.524 -15.4,-10.922
Mechanical 15:
  circle w0.05: c0,0 r0.35
  lines w0.05: -0.5,0 0.5,0 ; 0,-0.5 0,0.5
3D body "DB9 ĸ_A.STEP": height 12.65, standoff -3.16, extent -15.45,-17.247 15.45,1.253

## DB9/S_A [mm] "9针母头串口,31*18.5*12.5mm"
pads (11):
  rect 1.7x1.7 hole 1: 1(-5.546,0)
  round 1.7 hole 1: 2(-2.773,0) 3(0,0) 4(2.773,0) 5(5.546,0) 6(-4.155,-2.84) 7(-1.385,-2.84) 8(1.385,-2.84) 9(4.155,-2.84)
  oval 4.318x2.032 hole 1.27 slot 3.556 at 0 deg: 10(12.5,-1.42) 11(-12.5,-1.42)
Top Overlay:
  lines w0.254: -14.224,-10.922 -14.224,-15.24 -9.652,-15.24 -9.652,-10.922 ; -8.225,-10.922 -8.225,-17.526 8.175,-17.526 8.175,-10.922 ; 9.652,-10.922 9.652,-15.24 14.478,-15.24 14.478,-10.922 ; -15.4,-10.922 15.4,-10.922 15.4,1.524 -15.4,1.524 -15.4,-10.922
Mechanical 15:
  circle w0.05: c0,0 r0.35
  lines w0.05: -0.5,0 0.5,0 ; 0,-0.5 0,0.5
3D body "DB9 公_A.STEP": height 12.65, standoff -3.16, extent -15.45,-17.247 15.45,1.253

## HDMI-A [mm] "A型 直插 HDMI座子"
height 6.3
pads (23):
  rect 0.3x2.4 smd mask+0.05: 1(4.5,0) 2(4,0) 3(3.5,0) 4(3,0) 5(2.5,0) 6(2,0) 7(1.5,0) 8(1,0) 9(0.5,0) 10(0,0) 11(-0.5,0) 12(-1,0) 13(-1.5,0) 14(-2,0) 15(-2.5,0) 16(-3,0) 17(-3.5,0) 18(-4,0) 19(-4.5,0)
  rrect50% 1.8x3.6 hole 0.9 slot 2.7 at 90 deg: G1(-7.31,-0.7) G4(7.295,-0.7)
  rrect50% 1.8x2.6 hole 0.9 slot 1.7 at 90 deg: G2(-7.31,-6.7) G3(7.295,-6.7)
Top Overlay:
  lines w0.12: -5.693,-1.533 -4.143,-1.533 -4.143,-2.483 cw(c-4.393,-2.483) -4.393,-2.733 -5.493,-2.733 cw(c-5.493,-2.533) -5.693,-2.533 -5.693,-1.433 -6.143,-0.983 -4.793,-0.983 ; -5.593,-1.533 -5.593,-2.483 -5.593,-2.533 ccw(c-5.443,-2.533) -5.443,-2.683 -4.443,-2.683 ccw(c-4.443,-2.483) -4.243,-2.483 -4.243,-1.533 ; -5.115,-8.264 -3.665,-8.264 ; -4.715,-5.114 -4.115,-5.114 ; -4.715,-4.014 -4.115,-4.014 ; -4.715,-3.964 -4.115,-3.964 ; -4.493,-2.683 -4.493,-1.533 ; 3.65,-8.264 5.1,-8.264 ; 4.1,-5.114 4.7,-5.114 ; 4.1,-4.014 4.7,-4.014 ; 4.1,-3.964 4.7,-3.964 ; 4.229,-1.533 4.229,-2.483 ccw(c4.429,-2.483) 4.429,-2.683 5.429,-2.683 ccw(c5.429,-2.533) 5.579,-2.533 5.579,-2.483 5.579,-1.533 ; 4.479,-2.683 4.479,-1.533 ; 4.779,-0.983 6.129,-0.983 5.679,-1.433 5.679,-2.533 cw(c5.479,-2.533) 5.479,-2.733 4.379,-2.733 cw(c4.379,-2.483) 4.129,-2.483 4.129,-1.533 5.679,-1.533 ; -4.715,-3.764 cw(c-4.565,-3.764) -4.565,-3.614 -4.265,-3.614 cw(c-4.265,-3.764) -4.115,-3.764 ; -4.715,-3.764 -4.715,-6.264 -5.165,-8.464 cw(c-5.415,-8.464) -5.415,-8.714 cw(c-5.415,-8.464) -5.665,-8.464 -5.165,-6.114 -5.165,-3.514 cw(c-4.665,-3.514) -4.665,-3.014 -4.165,-3.014 -4.115,-3.014 cw(c-4.115,-3.514) -3.615,-3.514 -3.615,-6.114 -3.115,-8.464 cw(c-3.365,-8.464) -3.365,-8.714 ; -4.715,-3.764 -4.115,-3.764 ; -4.115,-3.764 -4.115,-3.864 -4.115,-6.264 -3.615,-8.464 ccw(c-3.365,-8.464) -3.365,-8.714 ; -3.365,-8.714 -3.365,-8.714 ; 3.35,-8.714 ccw(c3.35,-8.464) 3.6,-8.464 4.1,-6.264 4.1,-3.864 4.1,-3.764 ; 3.35,-8.714 cw(c3.35,-8.464) 3.1,-8.464 3.6,-6.114 3.6,-3.514 cw(c4.1,-3.514) 4.1,-3.014 4.15,-3.014 4.65,-3.014 cw(c4.65,-3.514) 5.15,-3.514 5.15,-6.114 5.65,-8.464 cw(c5.4,-8.464) 5.4,-8.714 cw(c5.4,-8.464) 5.15,-8.464 4.7,-6.264 4.7,-3.764 ; 3.35,-8.714 3.35,-8.714 ; 4.1,-3.764 cw(c4.25,-3.764) 4.25,-3.614 4.55,-3.614 cw(c4.55,-3.764) 4.7,-3.764 ; 4.1,-3.764 4.7,-3.764
  lines w0.203: -7.5,-8.172 -7.5,-10.3 7.485,-10.3 7.485,-8.172 ; -7.5,-5.265 -7.5,-2.699 ; -7.5,1.175 -7.5,1.473 -4.902,1.473 ; 4.888,1.473 7.485,1.473 7.485,1.175 ; 7.485,-5.265 7.485,-2.699
  text "19" at -5.825,0.925 h1.5
  text "1" at 4.85,0.425 h1.5
Mechanical 14:
  lines w0.01: 7.25,-6.4 7.95,-6.4 7.95,-5.4 7.25,-5.4
3D body: height 6.3, standoff 0, extent -7.75,-9.5 7.25,-0.5
3D body "57283.stp": height 6.08, standoff -2.2, extent -7.5,-10.795 7.5,1.205

## Micro SD [mm]
pads (15):
  rect 2.032x2.2 smd: 0(0,0) 0(15.5,0)
  rect 1.2x1.4 smd: 0(0,9.6)
  round 1 hole 1 unplated: 0(2.9,-0.4) 0(10.9,-0.4)
  rect 1.6x1.4 smd: 0(14.7,9.6)
  rect 0.7x1.8 smd: 1(10.1,10.227) 2(9,10.227) 3(7.9,10.227) 4(6.8,10.227) 5(5.7,10.227) 6(4.6,10.227) 7(3.5,10.227) 8(2.4,10.227) 9(1.3,10.227)
Top Overlay:
  lines w0.152: 0.423,-2.295 0.423,-3.87 9.414,-3.87 ; 3.471,-2.295 4.004,-1.762 4.004,-1.736 ; 4.131,-2.295 4.639,-1.787 4.639,-1.736 ; 4.868,-2.295 4.868,-2.219 5.35,-1.736 ; 5.553,-2.295 6.112,-1.736 6.138,-1.736 ; 6.138,-2.295 6.671,-1.762 6.671,-1.736 ; 6.773,-2.295 7.331,-1.736 7.433,-1.736 ; 7.433,-2.295 7.992,-1.736 8.017,-1.736 ; 8.068,-2.295 8.601,-1.762 8.601,-1.736 ; 8.703,-2.295 9.262,-1.736 9.389,-1.736 ; 9.338,-2.295 9.897,-1.736 9.922,-1.736 ; 9.389,-3.87 11.954,-4.683 15.307,-4.683 15.307,-2.321 ; 9.922,-2.295 10.481,-1.736 ; 10.481,-2.295 10.887,-1.889 10.964,-1.889 ; -0.289,-2.295 2.709,-2.295 3.267,-1.736 10.811,-1.736 11.37,-2.295 16.171,-2.295 ; -0.289,-2.295 16.171,-2.295 ; -0.289,-2.295 -0.72,-1.863 -0.72,11.319 -0.289,11.751 15.891,11.751 16.272,11.37 16.272,-2.194 16.171,-2.295
  text "1" at 9.998,8.297 h0.76
  text "2" at 8.906,8.322 h0.76
  text "3" at 7.839,8.322 h0.76
  text "4" at 6.646,8.322 h0.76
  text "5" at 5.579,8.347 h0.76
  text "6" at 4.512,8.347 h0.76
  text "7" at 3.445,8.347 h0.76
  text "8" at 2.328,8.373 h0.76
  text "Cd" at 0.981,8.932 h0.76
3D body "sdcard.STEP": height 1.8, standoff -0.7, extent -0.272,-4.625 16.001,10.569

## MICRO SIM [mm] "16.30mm*14.66mm*1.8mm(长*宽*厚）"
pads (8):
  rect 1.7x1.5 smd: 1(-7.2,10.85) 1(7.2,10.85)
  rect 1x1.2 smd: 1(-3.81,0) 2(-2.54,0) 3(-1.27,0) 4(0,0) 5(1.27,0) 6(2.54,0)
Top Overlay:
  lines w0.254: -7.747,9.779 -7.747,-0.508 -4.445,-0.508 ; -7.747,11.938 -7.747,16.129 -3.937,16.129 -3.937,15.24 3.937,15.24 3.937,16.129 7.747,16.129 7.747,11.938 ; 3.302,-0.508 7.747,-0.508 7.747,9.779
Mechanical 15:
  circle w0.05: c0,7.83 r0.35
  lines w0.05: -0.5,7.83 0.5,7.83 ; 0,7.33 0,8.33
3D body "MICRO SIM.STEP": height 1.85, standoff 0.04, extent -7.58,-0.3 7.58,15.96

## RJ11-6P6C [mm] "15mm*12mm*14.55mm(长*宽*高)"
pads (8):
  round 0 hole 2.3: 0(-6,1.5) 0(6,1.5)
  rect 1.6x1.6 hole 0.8: 1(2.55,-0.8)
  round 1.6 hole 0.8: 2(1.53,-3.34) 3(0.51,-0.8) 4(-0.51,-3.34) 5(-1.53,-0.8) 6(-2.55,-3.34)
Top Overlay:
  lines w0.254: -5.969,0 -5.969,-7.5 6.096,-7.5 6.096,0 ; -5.969,3.048 -5.969,7.5 6.096,7.5 6.096,3.048 ; -5.969,5.08 6.096,5.08 ; 0,6.731 0,7.5
3D body "RJ11-6P6C.STEP": height 14.6, standoff -3.45, extent -7.15,-7.5 7.15,7.5

## RJ45-2 [mil] "网线接口"
pads (12):
  rect 60x60 hole 35: 1(0,0)
  round 60 hole 35: 2(-50,-100) 3(-100,0) 4(-150,-100) 5(-200,0) 6(-250,-100) 7(-300,0) 8(-350,-100)
  round 130 hole 127.95 unplated: 9(50,250) 10(-400,250)
  round 98.42 hole 62.99: 11(145,370) 12(-495,370)
Top Overlay:
  lines w8: -488.19,464.57 141.73,464.57
  lines w10: -495,-165.35 144.65,-165.35 145,-165 145,370 145,562.99 -495,562.99 -495,370 -495,-165 ; -173.23,551.18 -173.23,559.06
3D body "Mod-Jack-K122449007-Stig-W.STEP": height 127.85, standoff -555.12, extent -490,-172.17 139.92,556.17